# Altium schematic symbol library IC_Intersil_ICM7555IPAZ_eec.SchLib: 1 symbol
Pins are listed as number, name and electrical type; pins without a type are passive.

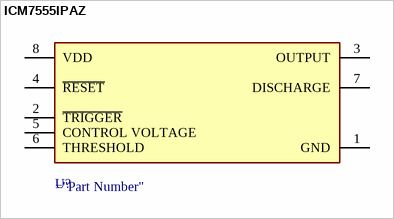
[diagram p0: symbol ICM7555IPAZ]

## ICM7555IPAZ
designator U?  (value not drawn)
footprint Intersil_ICM7555IPAZ_0
pins: 1 GND, 2 ~{TRIGGER}, 3 OUTPUT, 4 ~{RESET}, 5 CONTROL VOLTAGE, 6 THRESHOLD, 7 DISCHARGE, 8 VDD